# EAGLE library part TL1220R1BXXXHALO (library switch-e-switch)
TACT SWITCH WITH LED
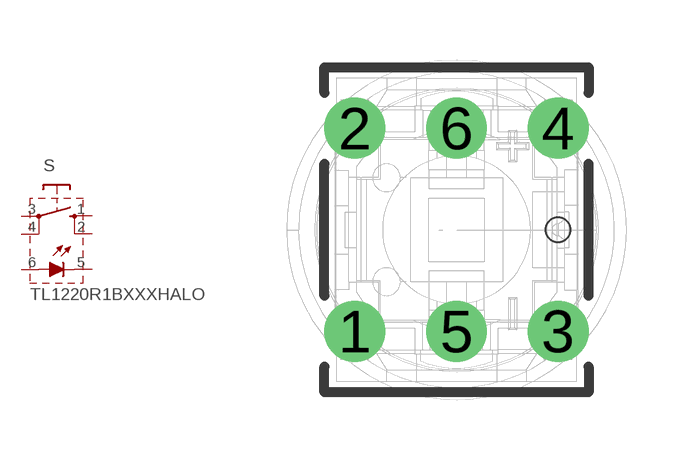
[diagram p21: symbol with the pads of TL1220R1BXXXHALO; footprint TL1220R1BXXXHALO]

Designator prefix S

## TL1220R1BXXXHALO  [TL1220R1BXXXHALO]
1  S  pas
2  S1  pas
3  P  pas
4  P1  pas
5  C  pas
6  A  pas

## Footprint TL1220R1BXXXHALO (pad centres in mm)
TACT SWITCH - LED
drill 1.016: 1 -2.54,-2.54; 2 -2.54,2.54; 3 2.54,-2.54; 4 2.54,2.54; 5 0,-2.54; 6 0,2.54
hole 0.61 at 2.54,0